# Altium schematic symbol library SCH - ARM CORTEX - ST STM8L051 20PIN.SchLib: 1 symbol
Pins are listed as number, name and electrical type; pins without a type are passive.

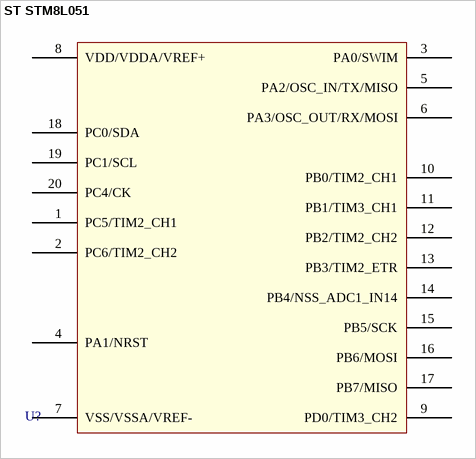
[diagram p0: symbol ST STM8L051]

## ST STM8L051
designator U?, comment STM8L051F3  (value not drawn)
IC MCU 8BIT 8KB FLASH
footprint ST TSSOP-20 (TSSOP, 20-Leads, Body 6.50x4.40mm, Pitch 0.65mm, IPC Medium Density)
pins: 1 PC5/TIM2_CH1, 2 PC6/TIM2_CH2, 3 PA0/SWIM, 4 PA1/NRST, 5 PA2/OSC_IN/TX/MISO, 6 PA3/OSC_OUT/RX/MOSI, 7 VSS/VSSA/VREF-, 8 VDD/VDDA/VREF+, 9 PD0/TIM3_CH2, 10 PB0/TIM2_CH1, 11 PB1/TIM3_CH1, 12 PB2/TIM2_CH2, 13 PB3/TIM2_ETR, 14 PB4/NSS_ADC1_IN14, 15 PB5/SCK, 16 PB6/MOSI, 17 PB7/MISO, 18 PC0/SDA, 19 PC1/SCL, 20 PC4/CK